# Altium schematic symbol library LTC3119.Schlib: 1 symbol
Pins are listed as number, name and electrical type; pins without a type are passive.

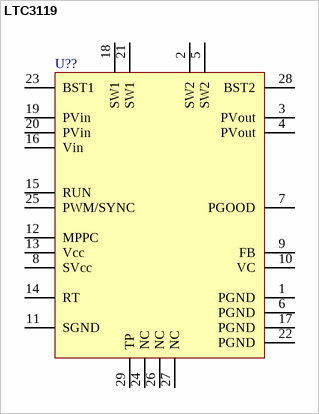
[diagram p0: symbol LTC3119]

## LTC3119
designator U??
pins: 1 PGND (power), 2 SW2 (power), 3 PVout, 4 PVout, 5 SW2 (power), 6 PGND (power), 7 PGOOD (power), 8 SVcc (power), 9 FB (power), 10 VC (power), 11 SGND (power), 12 MPPC (power), 13 Vcc (power), 14 RT (power), 15 RUN (power), 16 Vin, 17 PGND (power), 18 SW1 (power), 19 PVin, 20 PVin, 21 SW1 (power), 22 PGND (power), 23 BST1 (power), 24 NC (power), 25 PWM/SYNC (power), 26 NC (power), 27 NC (power), 28 BST2 (power), 29 TP (power)